# Altium footprint library WR-MM.PcbLib: 120 footprints (part 4 of 8)
Each footprint in its own frame and in the unit in brackets; x right, y up, seen from the top. Pads: shape width x height; smd on the part's side, far side on the other; paste and mask are expansions set on the pad; w line width, h text height; cw(c..) or ccw(c..) is an arc to the next point about the centre after c.
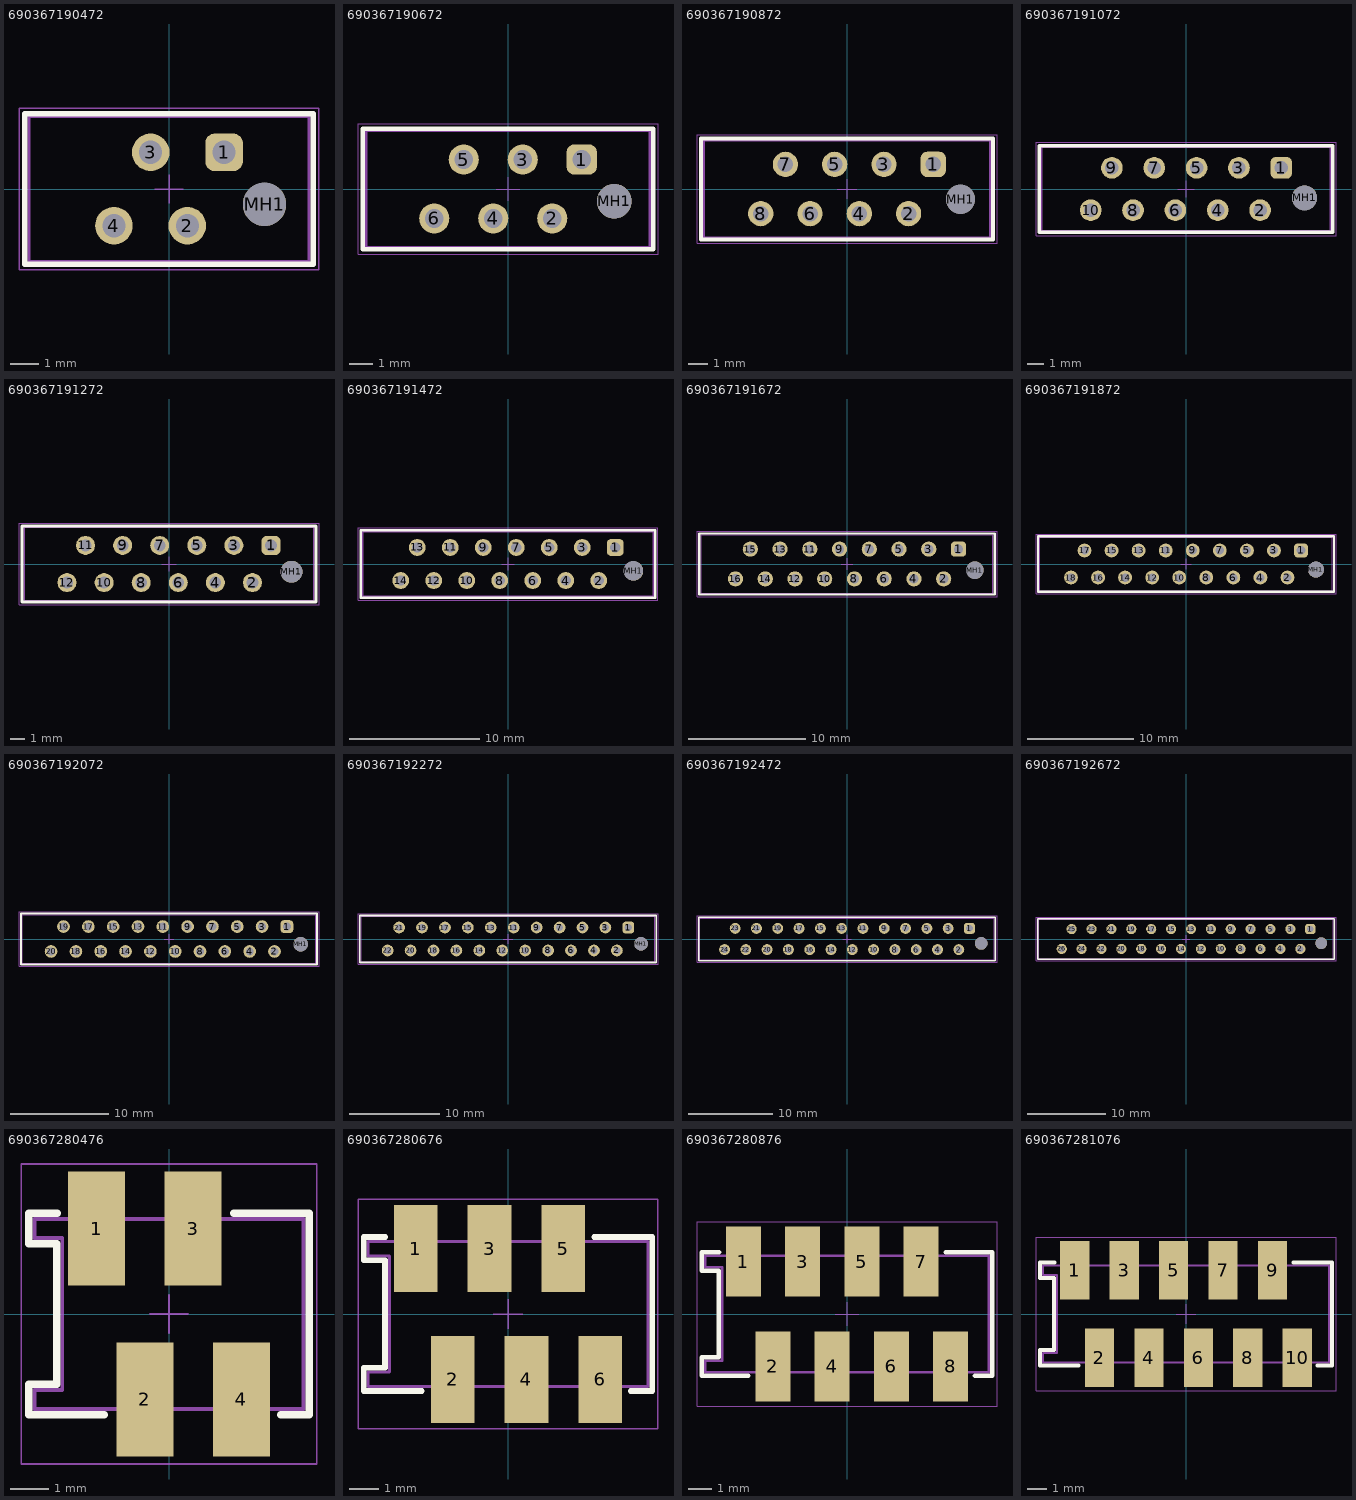
[diagram p3: the footprints below, top view; thin cyan lines are the x and y axes]

## 690367190472 [mm] "MiniModule Connectors, PCB Type, Female, THT, Vertical, 4p"
height 4.4
pads (5):
  rrect50% 1.3x1.3 hole 0.8: 1(1.905,1.27)
  round 1.3 hole 0.8: 2(0.635,-1.27) 3(-0.635,1.27) 4(-1.905,-1.27)
  round 1.5 hole 1.5 unplated: MH1(3.305,-0.53)
Top Overlay:
  lines w0.2: -4.99,-2.6 -4.99,2.6 4.99,2.6 4.99,-2.6 -4.99,-2.6
Top Designator:
  text ".Designator" at -7.498,-0.5 h1.5
Top Component Outline:
  lines w0.1: -4.84,-2.5 4.84,-2.5 4.84,2.5 -4.84,2.5 -4.84,-2.5
Top 3D Body:
  lines w0.1: -4.84,-2.5 -4.84,2.5 4.84,2.5 4.84,-2.5 -4.84,-2.5
Top Courtyard:
  lines w0.05: -0.5,0 0.5,0 ; 0,-0.5 0,0.5 ; -5.19,-2.8 5.19,-2.8 5.19,2.8 -5.19,2.8 -5.19,-2.8
3D body "690367190472.stp": height 4.25, standoff -2.85, extent -4.84,-2.5 4.84,2.5

## 690367190672 [mm] "MiniModule Connectors, PCB Type, Female, THT, Vertical, 6p"
height 4.4
pads (7):
  rrect50% 1.3x1.3 hole 0.8: 1(3.175,1.27)
  round 1.3 hole 0.8: 2(1.905,-1.27) 3(0.635,1.27) 4(-0.635,-1.27) 5(-1.905,1.27) 6(-3.175,-1.27)
  round 1.5 hole 1.5 unplated: MH1(4.575,-0.53)
Top Overlay:
  lines w0.2: -6.26,-2.6 -6.26,2.6 6.26,2.6 6.26,-2.6 -6.26,-2.6
Top Designator:
  text ".Designator" at -7.498,-0.5 h1.5
Top Component Outline:
  lines w0.1: -6.11,-2.5 6.11,-2.5 6.11,2.5 -6.11,2.5 -6.11,-2.5
Top 3D Body:
  lines w0.1: -6.11,-2.5 -6.11,2.5 6.11,2.5 6.11,-2.5 -6.11,-2.5
Top Courtyard:
  lines w0.05: -0.5,0 0.5,0 ; 0,-0.5 0,0.5 ; -6.46,-2.8 6.46,-2.8 6.46,2.8 -6.46,2.8 -6.46,-2.8
3D body "690367190672.stp": height 4.25, standoff -2.85, extent -6.11,-2.5 6.11,2.5

## 690367190872 [mm] "MiniModule Connectors, PCB Type, Female, THT, Vertical, 8p"
height 4.4
pads (9):
  rrect50% 1.3x1.3 hole 0.8: 1(4.445,1.27)
  round 1.3 hole 0.8: 2(3.175,-1.27) 3(1.905,1.27) 4(0.635,-1.27) 5(-0.635,1.27) 6(-1.905,-1.27) 7(-3.175,1.27) 8(-4.445,-1.27)
  round 1.5 hole 1.5 unplated: MH1(5.845,-0.53)
Top Overlay:
  lines w0.2: -7.53,-2.6 7.53,-2.6 7.53,2.6 -7.53,2.6 -7.53,-2.6
Top Designator:
  text ".Designator" at -7.498,-0.5 h1.5
Top Component Outline:
  lines w0.1: -7.38,-2.5 -7.38,2.5 7.38,2.5 7.38,-2.5 -7.38,-2.5
Top 3D Body:
  lines w0.1: -7.38,-2.5 7.38,-2.5 7.38,2.5 -7.38,2.5 -7.38,-2.5
Top Courtyard:
  lines w0.05: -0.5,0 0.5,0 ; 0,-0.5 0,0.5 ; -7.73,-2.8 -7.73,2.8 7.73,2.8 7.73,-2.8 -7.73,-2.8
3D body "690367190872.stp": height 4.25, standoff -2.85, extent -7.38,-2.5 7.38,2.5

## 690367191072 [mm] "MiniModule Connectors, PCB Type, Female, THT, Vertical, 10p"
height 4.4
pads (11):
  rrect50% 1.3x1.3 hole 0.8: 1(5.715,1.27)
  round 1.3 hole 0.8: 2(4.445,-1.27) 3(3.175,1.27) 4(1.905,-1.27) 5(0.635,1.27) 6(-0.635,-1.27) 7(-1.905,1.27) 8(-3.175,-1.27) 9(-4.445,1.27) 10(-5.715,-1.27)
  round 1.5 hole 1.5 unplated: MH1(7.115,-0.53)
Top Overlay:
  lines w0.2: -8.8,-2.6 -8.8,2.6 8.8,2.6 8.8,-2.6 -8.8,-2.6
Top Designator:
  text ".Designator" at -7.498,-0.5 h1.5
Top Component Outline:
  lines w0.1: -8.65,-2.5 8.65,-2.5 8.65,2.5 -8.65,2.5 -8.65,-2.5
Top 3D Body:
  lines w0.1: -8.65,-2.5 -8.65,2.5 8.65,2.5 8.65,-2.5 -8.65,-2.5
Top Courtyard:
  lines w0.05: -0.5,0 0.5,0 ; 0,-0.5 0,0.5 ; -9,-2.8 9,-2.8 9,2.8 -9,2.8 -9,-2.8
3D body "690367191072.stp": height 4.25, standoff -2.85, extent -8.652,-2.5 8.652,2.5

## 690367191272 [mm] "MiniModule Connectors, PCB Type, Female, THT, Vertical, 12p"
height 4.4
pads (13):
  rrect50% 1.3x1.3 hole 0.8: 1(6.985,1.27)
  round 1.3 hole 0.8: 2(5.715,-1.27) 3(4.445,1.27) 4(3.175,-1.27) 5(1.905,1.27) 6(0.635,-1.27) 7(-0.635,1.27) 8(-1.905,-1.27) 9(-3.175,1.27) 10(-4.445,-1.27) 11(-5.715,1.27) 12(-6.985,-1.27)
  round 1.5 hole 1.5 unplated: MH1(8.385,-0.53)
Top Overlay:
  lines w0.2: -10.07,-2.6 10.07,-2.6 10.07,2.6 -10.07,2.6 -10.07,-2.6
Top Designator:
  text ".Designator" at -7.498,-0.5 h1.5
Top Component Outline:
  lines w0.1: -9.92,-2.5 -9.92,2.5 9.92,2.5 9.92,-2.5 -9.92,-2.5
Top 3D Body:
  lines w0.1: -9.92,-2.5 9.92,-2.5 9.92,2.5 -9.92,2.5 -9.92,-2.5
Top Courtyard:
  lines w0.05: -0.5,0 0.5,0 ; 0,-0.5 0,0.5 ; -10.27,-2.8 -10.27,2.8 10.27,2.8 10.27,-2.8 -10.27,-2.8
3D body "690367191272.stp": height 4.25, standoff -2.85, extent -9.92,-2.5 9.92,2.5

## 690367191472 [mm] "MiniModule Connectors, PCB Type, Female, THT, Vertical, 14p"
height 4.4
pads (15):
  rrect50% 1.3x1.3 hole 0.8: 1(8.255,1.27)
  round 1.3 hole 0.8: 2(6.985,-1.27) 3(5.715,1.27) 4(4.445,-1.27) 5(3.175,1.27) 6(1.905,-1.27) 7(0.635,1.27) 8(-0.635,-1.27) 9(-1.905,1.27) 10(-3.175,-1.27) 11(-4.445,1.27) 12(-5.715,-1.27) 13(-6.985,1.27) 14(-8.255,-1.27)
  round 1.5 hole 1.5 unplated: MH1(9.655,-0.53)
Top Overlay:
  lines w0.2: -11.34,-2.6 11.34,-2.6 11.34,2.6 -11.34,2.6 -11.34,-2.6
Top Designator:
  text ".Designator" at -7.498,-0.5 h1.5
Top Component Outline:
  lines w0.1: -11.19,-2.5 -11.19,2.5 11.19,2.5 11.19,-2.5 -11.19,-2.5
Top 3D Body:
  lines w0.1: -11.19,-2.5 11.19,-2.5 11.19,2.5 -11.19,2.5 -11.19,-2.5
Top Courtyard:
  lines w0.05: -0.5,0 0.5,0 ; 0,-0.5 0,0.5 ; -11.54,-2.8 -11.54,2.8 11.54,2.8 11.54,-2.8 -11.54,-2.8
3D body "690367191472.stp": height 4.25, standoff -2.85, extent -11.19,-2.5 11.19,2.5

## 690367191672 [mm] "MiniModule Connectors, PCB Type, Female, THT, Vertical, 16p"
height 4.4
pads (17):
  rrect50% 1.3x1.3 hole 0.8: 1(9.525,1.27)
  round 1.3 hole 0.8: 2(8.255,-1.27) 3(6.985,1.27) 4(5.715,-1.27) 5(4.445,1.27) 6(3.175,-1.27) 7(1.905,1.27) 8(0.635,-1.27) 9(-0.635,1.27) 10(-1.905,-1.27) 11(-3.175,1.27) 12(-4.445,-1.27) 13(-5.715,1.27) 14(-6.985,-1.27) 15(-8.255,1.27) 16(-9.525,-1.27)
  round 1.5 hole 1.5 unplated: MH1(10.925,-0.53)
Top Overlay:
  lines w0.2: -12.61,-2.6 12.61,-2.6 12.61,2.6 -12.61,2.6 -12.61,-2.6
Top Designator:
  text ".Designator" at -7.498,-0.5 h1.5
Top Component Outline:
  lines w0.1: -12.46,-2.5 -12.46,2.5 12.46,2.5 12.46,-2.5 -12.46,-2.5
Top 3D Body:
  lines w0.1: -12.46,-2.5 12.46,-2.5 12.46,2.5 -12.46,2.5 -12.46,-2.5
Top Courtyard:
  lines w0.05: -0.5,0 0.5,0 ; 0,-0.5 0,0.5 ; -12.81,-2.8 -12.81,2.8 12.81,2.8 12.81,-2.8 -12.81,-2.8
3D body "690367191672.stp": height 4.25, standoff -2.85, extent -12.46,-2.5 12.46,2.5

## 690367191872 [mm] "MiniModule Connectors, PCB Type, Female, THT, Vertical, 18p"
height 4.4
pads (19):
  rrect50% 1.3x1.3 hole 0.8: 1(10.795,1.27)
  round 1.3 hole 0.8: 2(9.525,-1.27) 3(8.255,1.27) 4(6.985,-1.27) 5(5.715,1.27) 6(4.445,-1.27) 7(3.175,1.27) 8(1.905,-1.27) 9(0.635,1.27) 10(-0.635,-1.27) 11(-1.905,1.27) 12(-3.175,-1.27) 13(-4.445,1.27) 14(-5.715,-1.27) 15(-6.985,1.27) 16(-8.255,-1.27) 17(-9.525,1.27) 18(-10.795,-1.27)
  round 1.5 hole 1.5 unplated: MH1(12.195,-0.53)
Top Overlay:
  lines w0.2: -13.88,-2.6 13.88,-2.6 13.88,2.6 -13.88,2.6 -13.88,-2.6
Top Designator:
  text ".Designator" at -7.498,-0.5 h1.5
Top Component Outline:
  lines w0.1: -13.73,-2.5 -13.73,2.5 13.73,2.5 13.73,-2.5 -13.73,-2.5
Top 3D Body:
  lines w0.1: -13.73,-2.5 13.73,-2.5 13.73,2.5 -13.73,2.5 -13.73,-2.5
Top Courtyard:
  lines w0.05: -0.5,0 0.5,0 ; 0,-0.5 0,0.5 ; -14.08,-2.8 -14.08,2.8 14.08,2.8 14.08,-2.8 -14.08,-2.8
3D body "690367191872.stp": height 4.25, standoff -2.85, extent -13.73,-2.5 13.73,2.5

## 690367192072 [mm] "MiniModule Connectors, PCB Type, Female, THT, Vertical, 20p"
height 4.4
pads (21):
  rrect50% 1.3x1.3 hole 0.8: 1(12.065,1.27)
  round 1.3 hole 0.8: 2(10.795,-1.27) 3(9.525,1.27) 4(8.255,-1.27) 5(6.985,1.27) 6(5.715,-1.27) 7(4.445,1.27) 8(3.175,-1.27) 9(1.905,1.27) 10(0.635,-1.27) 11(-0.635,1.27) 12(-1.905,-1.27) 13(-3.175,1.27) 14(-4.445,-1.27) 15(-5.715,1.27) 16(-6.985,-1.27) 17(-8.255,1.27) 18(-9.525,-1.27) 19(-10.795,1.27) 20(-12.065,-1.27)
  round 1.5 hole 1.5 unplated: MH1(13.465,-0.53)
Top Overlay:
  lines w0.2: -15.15,-2.6 15.15,-2.6 15.15,2.6 -15.15,2.6 -15.15,-2.6
Top Designator:
  text ".Designator" at -7.498,-0.5 h1.5
Top Component Outline:
  lines w0.1: -15,-2.5 -15,2.5 15,2.5 15,-2.5 -15,-2.5
Top 3D Body:
  lines w0.1: -15,-2.5 15,-2.5 15,2.5 -15,2.5 -15,-2.5
Top Courtyard:
  lines w0.05: -0.5,0 0.5,0 ; 0,-0.5 0,0.5 ; -15.35,-2.8 -15.35,2.8 15.35,2.8 15.35,-2.8 -15.35,-2.8
3D body "690367192072.stp": height 4.25, standoff -2.85, extent -15,-2.5 15,2.5

## 690367192272 [mm] "MiniModule Connectors, PCB Type, Female, THT, Vertical, 22p"
height 4.4
pads (23):
  rrect50% 1.3x1.3 hole 0.8: 1(13.335,1.27)
  round 1.3 hole 0.8: 2(12.065,-1.27) 3(10.795,1.27) 4(9.525,-1.27) 5(8.255,1.27) 6(6.985,-1.27) 7(5.715,1.27) 8(4.445,-1.27) 9(3.175,1.27) 10(1.905,-1.27) 11(0.635,1.27) 12(-0.635,-1.27) 13(-1.905,1.27) 14(-3.175,-1.27) 15(-4.445,1.27) 16(-5.715,-1.27) 17(-6.985,1.27) 18(-8.255,-1.27) 19(-9.525,1.27) 20(-10.795,-1.27) 21(-12.065,1.27) 22(-13.335,-1.27)
  round 1.5 hole 1.5 unplated: MH1(14.735,-0.53)
Top Overlay:
  lines w0.2: -16.42,-2.6 16.42,-2.6 16.42,2.6 -16.42,2.6 -16.42,-2.6
Top Designator:
  text ".Designator" at -7.498,-0.5 h1.5
Top Component Outline:
  lines w0.1: -16.27,-2.5 -16.27,2.5 16.27,2.5 16.27,-2.5 -16.27,-2.5
Top 3D Body:
  lines w0.1: -16.27,-2.5 16.27,-2.5 16.27,2.5 -16.27,2.5 -16.27,-2.5
Top Courtyard:
  lines w0.05: -0.5,0 0.5,0 ; 0,-0.5 0,0.5 ; -16.62,-2.8 -16.62,2.8 16.62,2.8 16.62,-2.8 -16.62,-2.8
3D body "690367192272.stp": height 4.25, standoff -2.85, extent -16.27,-2.5 16.27,2.5

## 690367192472 [mm] "MiniModule Connectors, PCB Type, Female, THT, Vertical, 24p"
height 4.4
pads (25):
  rrect50% 1.3x1.3 hole 0.8: 1(14.605,1.27)
  round 1.3 hole 0.8: 2(13.335,-1.27) 3(12.065,1.27) 4(10.795,-1.27) 5(9.525,1.27) 6(8.255,-1.27) 7(6.985,1.27) 8(5.715,-1.27) 9(4.445,1.27) 10(3.175,-1.27) 11(1.905,1.27) 12(0.635,-1.27) 13(-0.635,1.27) 14(-1.905,-1.27) 15(-3.175,1.27) 16(-4.445,-1.27) 17(-5.715,1.27) 18(-6.985,-1.27) 19(-8.255,1.27) 20(-9.525,-1.27) 21(-10.795,1.27) 22(-12.065,-1.27) 23(-13.335,1.27) 24(-14.605,-1.27)
  round 1.5 hole 1.5 unplated: MH1(16.005,-0.53)
Top Overlay:
  lines w0.2: -17.69,-2.6 17.69,-2.6 17.69,2.6 -17.69,2.6 -17.69,-2.6
Top Designator:
  text ".Designator" at -7.498,-0.5 h1.5
Top Component Outline:
  lines w0.1: -17.54,-2.5 -17.54,2.5 17.54,2.5 17.54,-2.5 -17.54,-2.5
Top 3D Body:
  lines w0.1: -17.54,-2.5 17.54,-2.5 17.54,2.5 -17.54,2.5 -17.54,-2.5
Top Courtyard:
  lines w0.05: -0.5,0 0.5,0 ; 0,-0.5 0,0.5 ; -17.89,-2.8 -17.89,2.8 17.89,2.8 17.89,-2.8 -17.89,-2.8
3D body "690367192472.stp": height 4.25, standoff -2.85, extent -17.54,-2.5 17.54,2.5

## 690367192672 [mm] "MiniModule Connectors, PCB Type, Female, THT, Vertical, 26p"
height 4.4
pads (27):
  rrect50% 1.3x1.3 hole 0.8: 1(15.875,1.27)
  round 1.3 hole 0.8: 2(14.605,-1.27) 3(13.335,1.27) 4(12.065,-1.27) 5(10.795,1.27) 6(9.525,-1.27) 7(8.255,1.27) 8(6.985,-1.27) 9(5.715,1.27) 10(4.445,-1.27) 11(3.175,1.27) 12(1.905,-1.27) 13(0.635,1.27) 14(-0.635,-1.27) 15(-1.905,1.27) 16(-3.175,-1.27) 17(-4.445,1.27) 18(-5.715,-1.27) 19(-6.985,1.27) 20(-8.255,-1.27) 21(-9.525,1.27) 22(-10.795,-1.27) 23(-12.065,1.27) 24(-13.335,-1.27) 25(-14.605,1.27) 26(-15.875,-1.27)
  round 1.5 hole 1.5 unplated: MH1(17.275,-0.53)
Top Overlay:
  lines w0.2: -18.96,-2.6 18.96,-2.6 18.96,2.6 -18.96,2.6 -18.96,-2.6
Top Designator:
  text ".Designator" at -7.498,-0.5 h1.5
Top Component Outline:
  lines w0.1: -18.81,-2.5 -18.81,2.5 18.81,2.5 18.81,-2.5 -18.81,-2.5
Top 3D Body:
  lines w0.1: -18.81,-2.5 18.81,-2.5 18.81,2.5 -18.81,2.5 -18.81,-2.5
Top Courtyard:
  lines w0.05: -0.5,0 0.5,0 ; 0,-0.5 0,0.5 ; -19.16,-2.8 -19.16,2.8 19.16,2.8 19.16,-2.8 -19.16,-2.8
3D body "690367192672.stp": height 4.25, standoff -2.85, extent -18.81,-2.5 18.81,2.5

## 690367280476 [mm] "MiniModule Connectors, PCB Type, Female, SMT, Vertical, 4p"
height 5.45
pads (4):
  rect 1.5x3 smd: 1(-1.905,2.25) 2(-0.635,-2.25) 3(0.635,2.25) 4(1.905,-2.25)
Top Overlay:
  lines w0.2: -2.95,2.65 -3.69,2.65 -3.69,1.85 -2.96,1.85 -2.96,-1.85 -3.69,-1.85 -3.69,-2.65 -1.7,-2.65 ; 1.7,2.65 3.69,2.65 3.69,-2.65 2.95,-2.65
Top Designator:
  text ".Designator" at -7.498,-0.5 h1.5
Top Component Outline:
  lines w0.1: -2.03,2.5 -2.03,3.5 -1.78,3.5 -1.78,2.5 ; -0.76,-2.5 -0.76,-3.5 -0.51,-3.5 -0.51,-2.5 ; 0.51,2.5 0.51,3.5 0.76,3.5 0.76,2.5 ; 1.78,-2.5 1.78,-3.5 2.03,-3.5 2.03,-2.5 ; -3.54,-2.5 -3.54,-2 -2.81,-2 -2.81,2 -3.54,2 -3.54,2.5 3.54,2.5 3.54,-2.5 -3.54,-2.5
Top 3D Body:
  lines w0.1: -2.03,2.5 -2.03,3.5 -1.78,3.5 -1.78,2.5 ; -0.76,-2.5 -0.76,-3.5 -0.51,-3.5 -0.51,-2.5 ; 0.51,2.5 0.51,3.5 0.76,3.5 0.76,2.5 ; 1.78,-2.5 1.78,-3.5 2.03,-3.5 2.03,-2.5 ; -3.54,-2.5 3.54,-2.5 3.54,2.5 -3.54,2.5 -3.54,2 -2.81,2 -2.81,-2 -3.54,-2 -3.54,-2.5
Top Courtyard:
  lines w0.05: -0.5,0 0.5,0 ; 0,-0.5 0,0.5 ; -3.89,-3.95 -3.89,3.95 3.89,3.95 3.89,-3.95 -3.89,-3.95
3D body "690367280476.stp": height 5.8, standoff 0, extent -3.535,-3.499 3.545,3.498

## 690367280676 [mm] "MiniModule Connectors, PCB Type, Female, SMT, Vertical, 6p"
height 5.45
pads (6):
  rect 1.5x3 smd: 1(-3.175,2.25) 2(-1.905,-2.25) 3(-0.635,2.25) 4(0.635,-2.25) 5(1.905,2.25) 6(3.175,-2.25)
Top Overlay:
  lines w0.2: -4.22,2.65 -4.96,2.65 -4.96,1.85 -4.23,1.85 -4.23,-1.85 -4.96,-1.85 -4.96,-2.65 -2.97,-2.65 ; 2.97,2.65 4.96,2.65 4.96,-2.65 4.22,-2.65
Top Designator:
  text ".Designator" at -7.498,-0.5 h1.5
Top Component Outline:
  lines w0.1: -3.3,2.5 -3.3,3.5 -3.05,3.5 -3.05,2.5 ; -2.03,-2.5 -2.03,-3.5 -1.78,-3.5 -1.78,-2.5 ; -0.76,2.5 -0.76,3.5 -0.51,3.5 -0.51,2.5 ; 0.51,-2.5 0.51,-3.5 0.76,-3.5 0.76,-2.5 ; 1.78,2.5 1.78,3.5 2.03,3.5 2.03,2.5 ; 3.05,-2.5 3.05,-3.5 3.3,-3.5 3.3,-2.5 ; -4.81,-2.5 -4.81,-2 -4.08,-2 -4.08,2 -4.81,2 -4.81,2.5 4.81,2.5 4.81,-2.5 -4.81,-2.5
Top 3D Body:
  lines w0.1: -3.3,2.5 -3.3,3.5 -3.05,3.5 -3.05,2.5 ; -2.03,-2.5 -2.03,-3.5 -1.78,-3.5 -1.78,-2.5 ; -0.76,2.5 -0.76,3.5 -0.51,3.5 -0.51,2.5 ; 0.51,-2.5 0.51,-3.5 0.76,-3.5 0.76,-2.5 ; 1.78,2.5 1.78,3.5 2.03,3.5 2.03,2.5 ; 3.05,-2.5 3.05,-3.5 3.3,-3.5 3.3,-2.5 ; -4.81,-2.5 4.81,-2.5 4.81,2.5 -4.81,2.5 -4.81,2 -4.08,2 -4.08,-2 -4.81,-2 -4.81,-2.5
Top Courtyard:
  lines w0.05: -0.5,0 0.5,0 ; 0,-0.5 0,0.5 ; -5.16,-3.95 -5.16,3.95 5.16,3.95 5.16,-3.95 -5.16,-3.95
3D body "690367280676.stp": height 5.8, standoff 0.05, extent -4.805,-3.498 4.815,3.499

## 690367280876 [mm] "MiniModule Connectors, PCB Type, Female, SMT, Vertical, 8p"
height 5.45
pads (8):
  rect 1.5x3 smd: 1(-4.445,2.25) 2(-3.175,-2.25) 3(-1.905,2.25) 4(-0.635,-2.25) 5(0.635,2.25) 6(1.905,-2.25) 7(3.175,2.25) 8(4.445,-2.25)
Top Overlay:
  lines w0.2: -5.49,2.65 -6.23,2.65 -6.23,1.85 -5.5,1.85 -5.5,-1.85 -6.23,-1.85 -6.23,-2.65 -4.24,-2.65 ; 4.24,2.65 6.23,2.65 6.23,-2.65 5.49,-2.65
Top Designator:
  text ".Designator" at -7.498,-0.5 h1.5
Top Component Outline:
  lines w0.1: -4.57,2.5 -4.57,3.5 -4.32,3.5 -4.32,2.5 ; -3.3,-2.5 -3.3,-3.5 -3.05,-3.5 -3.05,-2.5 ; -2.03,2.5 -2.03,3.5 -1.78,3.5 -1.78,2.5 ; -0.76,-2.5 -0.76,-3.5 -0.51,-3.5 -0.51,-2.5 ; 0.51,2.5 0.51,3.5 0.76,3.5 0.76,2.5 ; 1.78,-2.5 1.78,-3.5 2.03,-3.5 2.03,-2.5 ; 3.05,2.5 3.05,3.5 3.3,3.5 3.3,2.5 ; 4.32,-2.5 4.32,-3.5 4.57,-3.5 4.57,-2.5 ; -6.08,-2.5 6.08,-2.5 6.08,2.5 -6.08,2.5 -6.08,2 -5.35,2 -5.35,-2 -6.08,-2 -6.08,-2.5
Top 3D Body:
  lines w0.1: -4.57,2.5 -4.57,3.5 -4.32,3.5 -4.32,2.5 ; -3.3,-2.5 -3.3,-3.5 -3.05,-3.5 -3.05,-2.5 ; -2.03,2.5 -2.03,3.5 -1.78,3.5 -1.78,2.5 ; -0.76,-2.5 -0.76,-3.5 -0.51,-3.5 -0.51,-2.5 ; 0.51,2.5 0.51,3.5 0.76,3.5 0.76,2.5 ; 1.78,-2.5 1.78,-3.5 2.03,-3.5 2.03,-2.5 ; 3.05,2.5 3.05,3.5 3.3,3.5 3.3,2.5 ; 4.32,-2.5 4.32,-3.5 4.57,-3.5 4.57,-2.5 ; -6.08,-2.5 -6.08,-2 -5.35,-2 -5.35,2 -6.08,2 -6.08,2.5 6.08,2.5 6.08,-2.5 -6.08,-2.5
Top Courtyard:
  lines w0.05: -0.5,0 0.5,0 ; 0,-0.5 0,0.5 ; -6.43,-3.95 6.43,-3.95 6.43,3.95 -6.43,3.95 -6.43,-3.95
3D body "690367280876.stp": height 5.8, standoff 0, extent -6.075,-3.498 6.085,3.499

## 690367281076 [mm] "MiniModule Connectors, PCB Type, Female, SMT, Vertical, 10p"
height 5.45
pads (10):
  rect 1.5x3 smd: 1(-5.715,2.25) 2(-4.445,-2.25) 3(-3.175,2.25) 4(-1.905,-2.25) 5(-0.635,2.25) 6(0.635,-2.25) 7(1.905,2.25) 8(3.175,-2.25) 9(4.445,2.25) 10(5.715,-2.25)
Top Overlay:
  lines w0.2: -6.76,2.65 -7.5,2.65 -7.5,1.85 -6.77,1.85 -6.77,-1.85 -7.5,-1.85 -7.5,-2.65 -5.51,-2.65 ; 5.51,2.65 7.5,2.65 7.5,-2.65 6.76,-2.65
Top Designator:
  text ".Designator" at -7.498,-0.5 h1.5
Top Component Outline:
  lines w0.1: -5.84,2.5 -5.84,3.5 -5.59,3.5 -5.59,2.5 ; -4.57,-2.5 -4.57,-3.5 -4.32,-3.5 -4.32,-2.5 ; -3.3,2.5 -3.3,3.5 -3.05,3.5 -3.05,2.5 ; -2.03,-2.5 -2.03,-3.5 -1.78,-3.5 -1.78,-2.5 ; -0.76,2.5 -0.76,3.5 -0.51,3.5 -0.51,2.5 ; 0.51,-2.5 0.51,-3.5 0.76,-3.5 0.76,-2.5 ; 1.78,2.5 1.78,3.5 2.03,3.5 2.03,2.5 ; 3.05,-2.5 3.05,-3.5 3.3,-3.5 3.3,-2.5 ; 4.32,2.5 4.32,3.5 4.57,3.5 4.57,2.5 ; 5.59,-2.5 5.59,-3.5 5.84,-3.5 5.84,-2.5 ; -7.35,-2.5 7.35,-2.5 7.35,2.5 -7.35,2.5 -7.35,2 -6.62,2 -6.62,-2 -7.35,-2 -7.35,-2.5
Top 3D Body:
  lines w0.1: -5.84,2.5 -5.84,3.5 -5.59,3.5 -5.59,2.5 ; -4.57,-2.5 -4.57,-3.5 -4.32,-3.5 -4.32,-2.5 ; -3.3,2.5 -3.3,3.5 -3.05,3.5 -3.05,2.5 ; -2.03,-2.5 -2.03,-3.5 -1.78,-3.5 -1.78,-2.5 ; -0.76,2.5 -0.76,3.5 -0.51,3.5 -0.51,2.5 ; 0.51,-2.5 0.51,-3.5 0.76,-3.5 0.76,-2.5 ; 1.78,2.5 1.78,3.5 2.03,3.5 2.03,2.5 ; 3.05,-2.5 3.05,-3.5 3.3,-3.5 3.3,-2.5 ; 4.32,2.5 4.32,3.5 4.57,3.5 4.57,2.5 ; 5.59,-2.5 5.59,-3.5 5.84,-3.5 5.84,-2.5 ; -7.35,-2.5 -7.35,-2 -6.62,-2 -6.62,2 -7.35,2 -7.35,2.5 7.35,2.5 7.35,-2.5 -7.35,-2.5
Top Courtyard:
  lines w0.05: -0.5,0 0.5,0 ; 0,-0.5 0,0.5 ; -7.7,-3.95 7.7,-3.95 7.7,3.95 -7.7,3.95 -7.7,-3.95
3D body "690367281076.stp": height 5.8, standoff 0.05, extent -7.345,-3.498 7.355,3.499